# Altium schematic symbol library TP4056.SchLib: 1 symbol
Pins are listed as number, name and electrical type; pins without a type are passive.

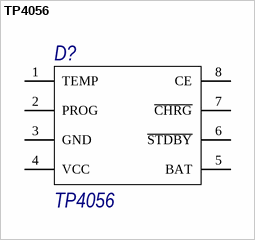
[diagram p0: symbol TP4056]

## TP4056
designator D?
footprint SOIC127P600X175-8N (SOIC, 8-Leads, Body 4,90x3,90mm, Pitch 1,27mm, IPC Medium Density)
pins: 1 TEMP, 2 PROG, 3 GND (power), 4 VCC (power), 5 BAT, 6 ~{STDBY}, 7 ~{CHRG}, 8 CE